# EAGLE library part 250-120 (library custom_library)
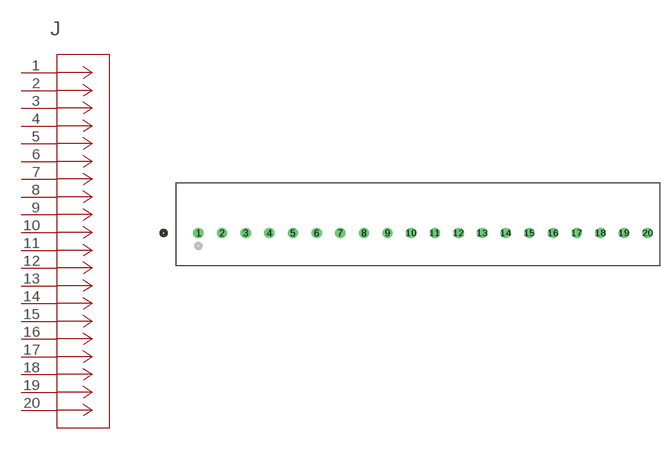
[diagram p3: symbol with the pads of CONN_250-120_WAG; footprint CONN_250-120_WAG]

Designator prefix J

## 250-120 (COPYRIGHT: Copyright (C) 2024 Ultra Librarian. All rights reserved.; MANUFACTURER_PART_NUMBER: 250-120; MFR_NAME: Wago)  [CONN_250-120_WAG]
1  1  pas
2  2  pas
3  3  pas
4  4  pas
5  5  pas
6  6  pas
7  7  pas
8  8  pas
9  9  pas
10  10  pas
11  11  pas
12  12  pas
13  13  pas
14  14  pas
15  15  pas
16  16  pas
17  17  pas
18  18  pas
19  19  pas
20  20  pas

## Footprint CONN_250-120_WAG (pad centres in mm)
drill 1.016 pad 1.524: 1 0,0; 2 3.505,0; 3 7.01,0; 4 10.49,0; 5 13.995,0; 6 17.501,0; 7 21.006,0; 8 24.511,0; 9 27.991,0; 10 31.496,0; 11 35.001,0; 12 38.506,0; 13 42.012,0; 14 45.491,0; 15 48.997,0; 16 52.502,0; 17 56.007,0; 18 59.512,0; 19 62.992,0; 20 66.497,0